# EAGLE library part MOD-WIFI-ESP8266-DEV (library Olimex-esp8266-dev)
Olimex MOD-WIFI-ESP8266-DEV rev.A
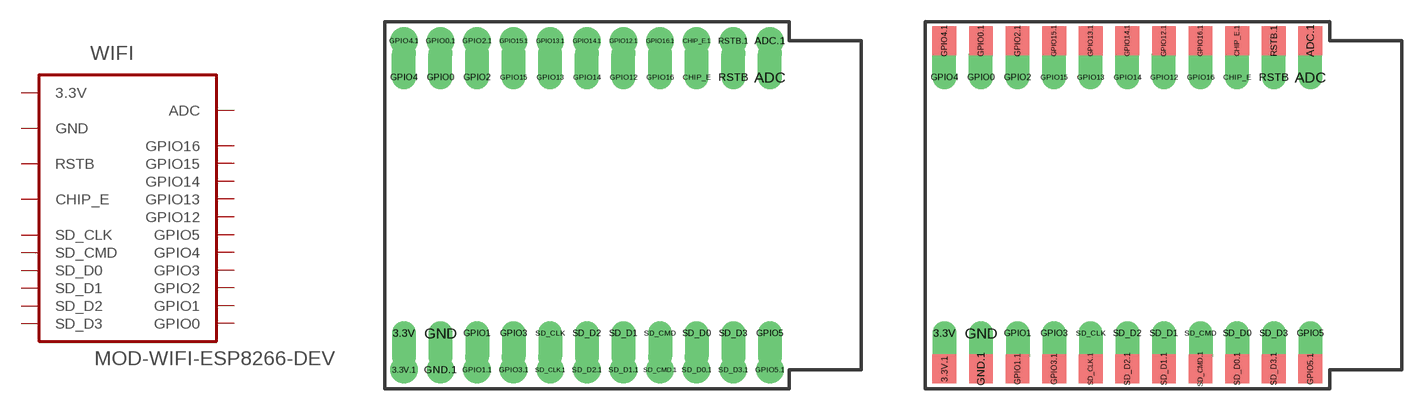
[diagram p0: symbol with the pads of MOD-WIFI-ESP8266-DEV; footprints MOD-WIFI-ESP8266-DEV, MOD-WIFI-ESP8266-DEV_SMT]

Designator prefix WIFI

## MOD-WIFI-ESP8266-DEV (DIGI-KEY: 1188-1154-ND; MOUSER: 909-WIFI-ESP8266-DEV; TME: MOD-WIFI-ESP8266-DEV)  [MOD-WIFI-ESP8266-DEV]
3.3V  3.3V  pas
3.3V.1  3.3V  pas
ADC  ADC  in
ADC.1  ADC  in
CHIP_E  CHIP_E  in
CHIP_E.1  CHIP_E  in
GND  GND  pas
GND.1  GND  pas
GPIO0  GPIO0
GPIO0.1  GPIO0
GPIO1  GPIO1
GPIO1.1  GPIO1
GPIO2  GPIO2
GPIO2.1  GPIO2
GPIO3  GPIO3
GPIO3.1  GPIO3
GPIO4  GPIO4
GPIO4.1  GPIO4
GPIO5  GPIO5
GPIO5.1  GPIO5
GPIO12  GPIO12
GPIO12.1  GPIO12
GPIO13  GPIO13
GPIO13.1  GPIO13
GPIO14  GPIO14
GPIO14.1  GPIO14
GPIO15  GPIO15
GPIO15.1  GPIO15
GPIO16  GPIO16
GPIO16.1  GPIO16
RSTB  RSTB
RSTB.1  RSTB
SD_CLK  SD_CLK  in
SD_CLK.1  SD_CLK  in
SD_CMD  SD_CMD
SD_CMD.1  SD_CMD
SD_D0  SD_D0
SD_D0.1  SD_D0
SD_D1  SD_D1
SD_D1.1  SD_D1
SD_D2  SD_D2
SD_D2.1  SD_D2
SD_D3  SD_D3
SD_D3.1  SD_D3

## MOD-WIFI-ESP8266-DEVSMT  [MOD-WIFI-ESP8266-DEV_SMT]
Pads as for MOD-WIFI-ESP8266-DEV

## Footprint MOD-WIFI-ESP8266-DEV (pad centres in mm)
drill 1.1 offset: 3.3V 1.333,3.873; ADC 26.733,21.654; CHIP_E 21.654,21.654; GND 3.873,3.873; GPIO0 3.873,21.654; GPIO1 6.413,3.873; GPIO2 6.413,21.654; GPIO3 8.954,3.873; GPIO4 1.333,21.654; GPIO5 26.733,3.873; GPIO12 16.573,21.654; GPIO13 11.493,21.654; GPIO14 14.034,21.654; GPIO15 8.954,21.654; GPIO16 19.113,21.654; RSTB 24.194,21.654; SD_CLK 11.493,3.873; SD_CMD 19.113,3.873; SD_D0 21.654,3.873; SD_D1 16.573,3.873; SD_D2 14.034,3.873; SD_D3 24.194,3.873
drill 1.2 pad 1.9: 3.3V.1 1.333,1.333; ADC.1 26.733,24.194; CHIP_E.1 21.654,24.194; GND.1 3.873,1.333; GPIO0.1 3.873,24.194; GPIO1.1 6.413,1.333; GPIO2.1 6.413,24.194; GPIO3.1 8.954,1.333; GPIO4.1 1.333,24.194; GPIO5.1 26.733,1.333; GPIO12.1 16.573,24.194; GPIO13.1 11.493,24.194; GPIO14.1 14.034,24.194; GPIO15.1 8.954,24.194; GPIO16.1 19.113,24.194; RSTB.1 24.194,24.194; SD_CLK.1 11.493,1.333; SD_CMD.1 19.113,1.333; SD_D0.1 21.654,1.333; SD_D1.1 16.573,1.333; SD_D2.1 14.034,1.333; SD_D3.1 24.194,1.333

## Footprint MOD-WIFI-ESP8266-DEV_SMT (pad centres in mm)
drill 1.1 offset: 3.3V 1.333,3.873; ADC 26.733,21.654; CHIP_E 21.654,21.654; GND 3.873,3.873; GPIO0 3.873,21.654; GPIO1 6.413,3.873; GPIO2 6.413,21.654; GPIO3 8.954,3.873; GPIO4 1.333,21.654; GPIO5 26.733,3.873; GPIO12 16.573,21.654; GPIO13 11.493,21.654; GPIO14 14.034,21.654; GPIO15 8.954,21.654; GPIO16 19.113,21.654; RSTB 24.194,21.654; SD_CLK 11.493,3.873; SD_CMD 19.113,3.873; SD_D0 21.654,3.873; SD_D1 16.573,3.873; SD_D2 14.034,3.873; SD_D3 24.194,3.873
smd 1.651 x 2.032: 3.3V.1 1.333,1.397; ADC.1 26.733,24.194; CHIP_E.1 21.654,24.194; GND.1 3.873,1.397; GPIO0.1 3.873,24.194; GPIO1.1 6.413,1.397; GPIO2.1 6.413,24.194; GPIO3.1 8.954,1.397; GPIO4.1 1.333,24.194; GPIO5.1 26.733,1.397; GPIO12.1 16.573,24.194; GPIO13.1 11.493,24.194; GPIO14.1 14.034,24.194; GPIO15.1 8.954,24.194; GPIO16.1 19.113,24.194; RSTB.1 24.194,24.194; SD_CLK.1 11.493,1.397; SD_CMD.1 19.113,1.397; SD_D0.1 21.654,1.397; SD_D1.1 16.573,1.397; SD_D2.1 14.034,1.397; SD_D3.1 24.194,1.397